# Altium footprint library MBT3904DW1T1G.PcbLib: 2 footprints
Each footprint in its own frame and in the unit in brackets; x right, y up, seen from the top. Pads: shape width x height; smd on the part's side, far side on the other; paste and mask are expansions set on the pad; w line width, h text height; cw(c..) or ccw(c..) is an arc to the next point about the centre after c.
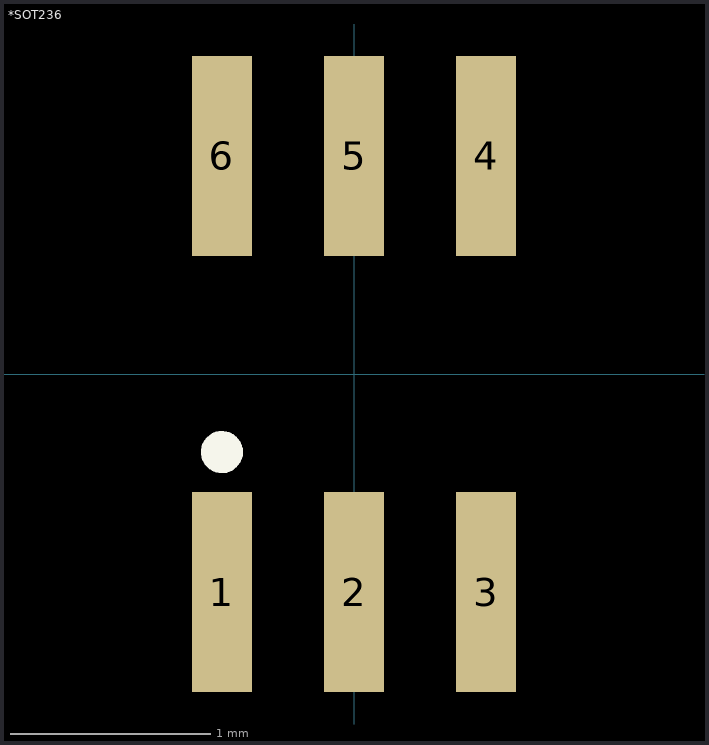
[diagram p0: the footprints below, top view; thin cyan lines are the x and y axes]

## *SOT236 [mm]
pads (6):
  rect 0.3x1 smd: 1(-0.66,-1.09) 2(0,-1.09) 3(0.66,-1.09) 4(0.66,1.09) 5(0,1.09) 6(-0.66,1.09)
Top Overlay:
  circle w0.05: c-0.66,-0.39 r0.081
  circle w0.05: c-0.66,-0.39 r0.032
  circle w0.05: c-0.66,-0.39 r0.022
  circle w0.05: c-0.66,-0.39 r0.01

## PCBComponent_1 [mm]